# Altium footprint library Connector_PinSocket_1.27mm.PcbLib: 246 footprints (part 5 of 16)
Each footprint in its own frame and in the unit in brackets; x right, y up, seen from the top. Pads: shape width x height; smd on the part's side, far side on the other; paste and mask are expansions set on the pad; w line width, h text height; cw(c..) or ccw(c..) is an arc to the next point about the centre after c.
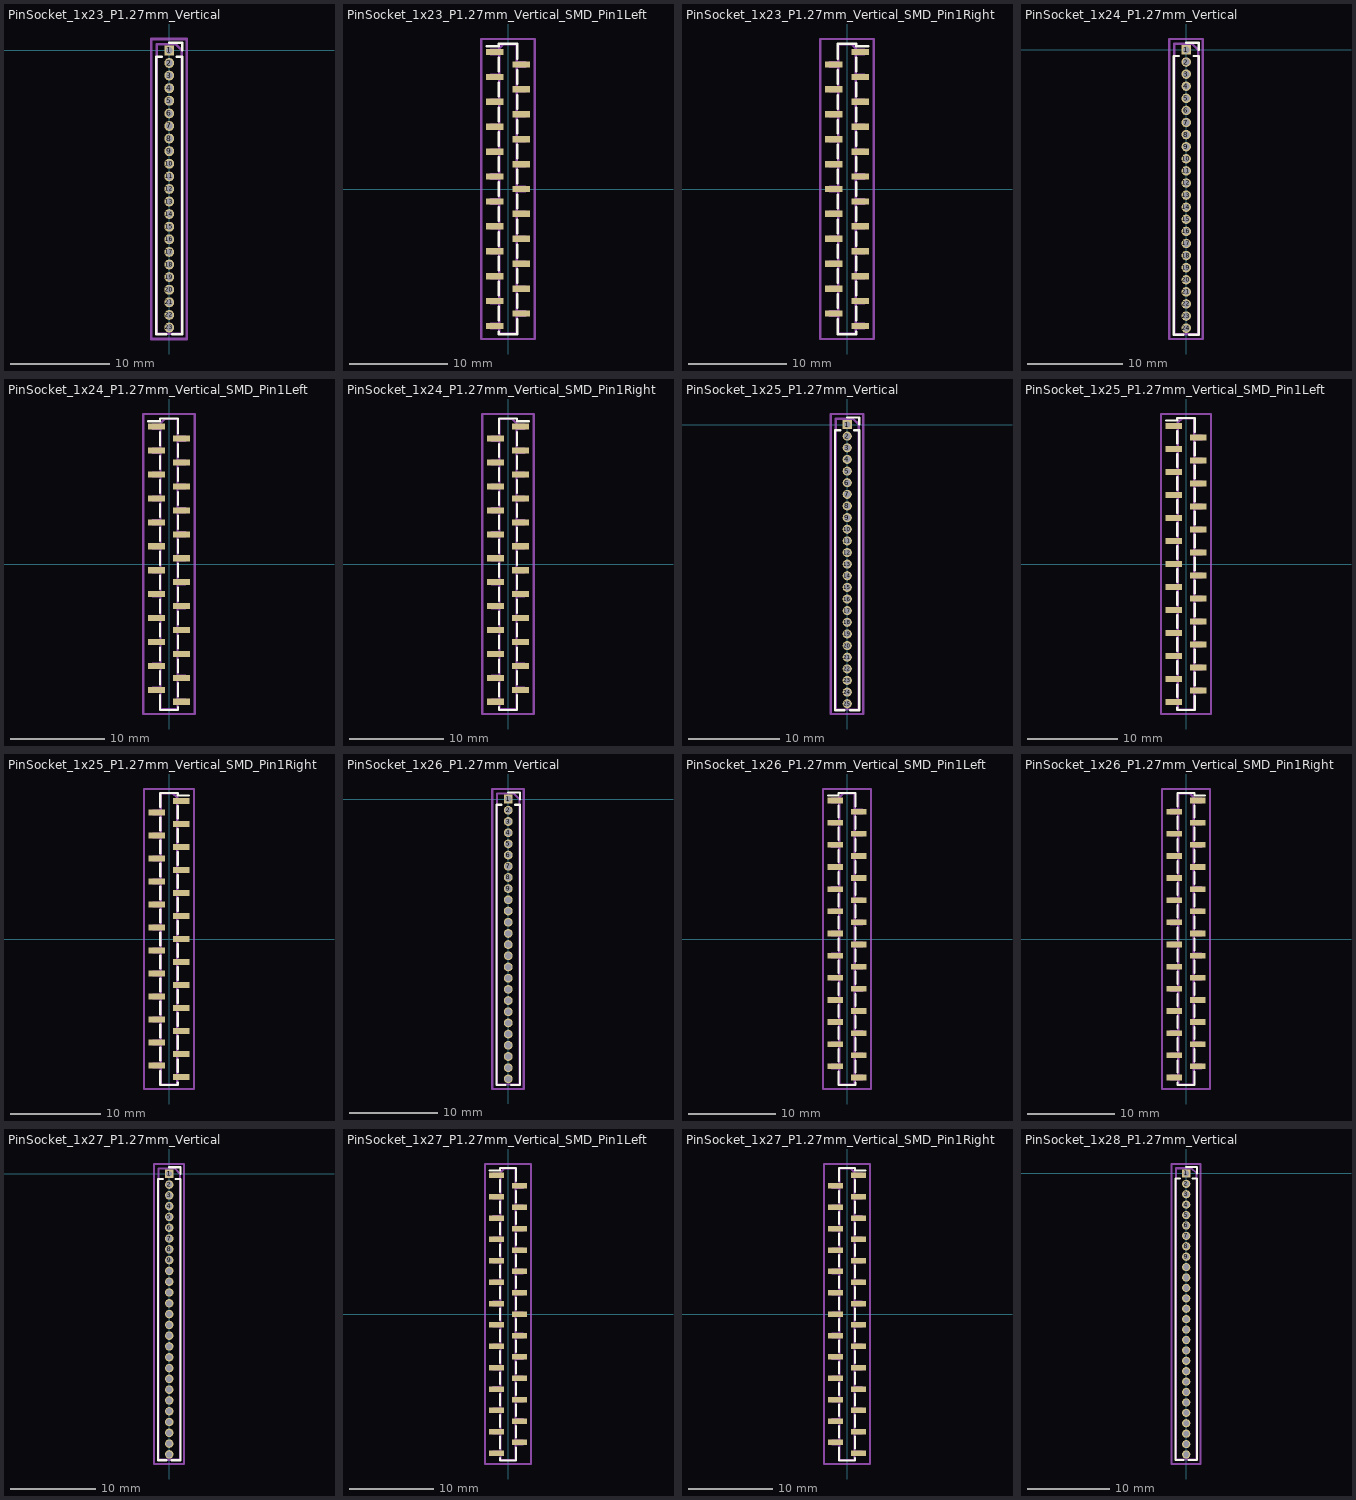
[diagram p4: the footprints below, top view; thin cyan lines are the x and y axes]

## PinSocket_1x23_P1.27mm_Vertical [mm]
pads (23):
  rect 1x1 hole 0.7: 1(0,0)
  round 1 hole 0.7: 2(0,-1.27) 3(0,-2.54) 4(0,-3.81) 5(0,-5.08) 6(0,-6.35) 7(0,-7.62) 8(0,-8.89) 9(0,-10.16) 10(0,-11.43) 11(0,-12.7) 12(0,-13.97) 13(0,-15.24) 14(0,-16.51) 15(0,-17.78) 16(0,-19.05) 17(0,-20.32) 18(0,-21.59) 19(0,-22.86) 20(0,-24.13) 21(0,-25.4) 22(0,-26.67) 23(0,-27.94)
F.SilkS:
  lines w0.254: -0.76,-0.635 -1.33,-0.635 -1.33,-28.635 -0.308,-28.635 ; 0,0.76 1.33,0.76 1.33,0 ; 0.308,-28.635 1.33,-28.635 1.33,-0.635 0.76,-0.635
Top Assembly:
  lines w0.254: -1.27,-28.575 1.27,-28.575 1.27,0 0.635,0.635 -1.27,0.635 -1.27,-28.575
  text "'.Designator'" at 0.84,-18.017 h1
Top Courtyard:
  lines w0.254: -1.8,-29.1 1.75,-29.1 1.75,1.15 -1.8,1.15 -1.8,-29.1
Top Designator:
  text ".Designator" at -7.643,-14.483 h1.52

## PinSocket_1x23_P1.27mm_Vertical_SMD_Pin1Left [mm]
pads (23):
  rect 1.8x0.65 smd: 1(-1.35,13.97) 2(1.35,12.7) 3(-1.35,11.43) 4(1.35,10.16) 5(-1.35,8.89) 6(1.35,7.62) 7(-1.35,6.35) 8(1.35,5.08) 9(-1.35,3.81) 10(1.35,2.54) 11(-1.35,1.27) 12(1.35,0) 13(-1.35,-1.27) 14(1.35,-2.54) 15(-1.35,-3.81) 16(1.35,-5.08) 17(-1.35,-6.35) 18(1.35,-7.62) 19(-1.35,-8.89) 20(1.35,-10.16) 21(-1.35,-11.43) 22(1.35,-12.7) 23(-1.35,-13.97)
F.SilkS:
  lines w0.254: -2.19,14.555 -0.96,14.555 -0.96,14.84 0.96,14.84 0.96,13.285 ; -0.96,-14.555 -0.96,-14.84 0.96,-14.84 0.96,-13.285 ; -0.96,-13.385 -0.96,-12.015 ; -0.96,-10.845 -0.96,-9.475 ; -0.96,-8.305 -0.96,-6.935 ; -0.96,-5.765 -0.96,-4.395 ; -0.96,-3.225 -0.96,-1.855 ; -0.96,-0.685 -0.96,0.685 ; -0.96,1.855 -0.96,3.225 ; -0.96,4.395 -0.96,5.765 ; -0.96,6.935 -0.96,8.305 ; -0.96,9.475 -0.96,10.845 ; -0.96,12.015 -0.96,13.385 ; 0.96,-12.115 0.96,-10.745 ; 0.96,-9.575 0.96,-8.205 ; 0.96,-7.035 0.96,-5.665 ; 0.96,-4.495 0.96,-3.125 ; 0.96,-1.955 0.96,-0.585 ; 0.96,0.585 0.96,1.955 ; 0.96,3.125 0.96,4.495 ; 0.96,5.665 0.96,7.035 ; 0.96,8.205 0.96,9.575 ; 0.96,10.745 0.96,12.115
Top Assembly:
  lines w0.254: -0.9,-14.18 -1.75,-14.18 -1.75,-13.76 -0.9,-13.76 ; -0.9,-11.64 -1.75,-11.64 -1.75,-11.22 -0.9,-11.22 ; -0.9,-9.1 -1.75,-9.1 -1.75,-8.68 -0.9,-8.68 ; -0.9,-6.56 -1.75,-6.56 -1.75,-6.14 -0.9,-6.14 ; -0.9,-4.02 -1.75,-4.02 -1.75,-3.6 -0.9,-3.6 ; -0.9,-1.48 -1.75,-1.48 -1.75,-1.06 -0.9,-1.06 ; -0.9,1.06 -1.75,1.06 -1.75,1.48 -0.9,1.48 ; -0.9,3.6 -1.75,3.6 -1.75,4.02 -0.9,4.02 ; -0.9,6.14 -1.75,6.14 -1.75,6.56 -0.9,6.56 ; -0.9,8.68 -1.75,8.68 -1.75,9.1 -0.9,9.1 ; -0.9,11.22 -1.75,11.22 -1.75,11.64 -0.9,11.64 ; -0.9,13.76 -1.75,13.76 -1.75,14.18 -0.9,14.18 ; 0.9,-12.91 1.75,-12.91 1.75,-12.49 0.9,-12.49 ; 0.9,-10.37 1.75,-10.37 1.75,-9.95 0.9,-9.95 ; 0.9,-7.83 1.75,-7.83 1.75,-7.41 0.9,-7.41 ; 0.9,-5.29 1.75,-5.29 1.75,-4.87 0.9,-4.87 ; 0.9,-2.75 1.75,-2.75 1.75,-2.33 0.9,-2.33 ; 0.9,-0.21 1.75,-0.21 1.75,0.21 0.9,0.21 ; 0.9,2.33 1.75,2.33 1.75,2.75 0.9,2.75 ; 0.9,4.87 1.75,4.87 1.75,5.29 0.9,5.29 ; 0.9,7.41 1.75,7.41 1.75,7.83 0.9,7.83 ; 0.9,9.95 1.75,9.95 1.75,10.37 0.9,10.37 ; 0.9,12.49 1.75,12.49 1.75,12.91 0.9,12.91 ; -0.9,-14.78 0.9,-14.78 0.9,14.78 -0.45,14.78 -0.9,14.33 -0.9,-14.78
  text "'.Designator'" at 0.84,-4.047 h1
Top Courtyard:
  lines w0.254: -2.75,-15.3 2.75,-15.3 2.75,15.3 -2.75,15.3 -2.75,-15.3
Top Designator:
  text ".Designator" at -7.618,-0.508 h1.52

## PinSocket_1x23_P1.27mm_Vertical_SMD_Pin1Right [mm]
pads (23):
  rect 1.8x0.65 smd: 1(1.35,13.97) 2(-1.35,12.7) 3(1.35,11.43) 4(-1.35,10.16) 5(1.35,8.89) 6(-1.35,7.62) 7(1.35,6.35) 8(-1.35,5.08) 9(1.35,3.81) 10(-1.35,2.54) 11(1.35,1.27) 12(-1.35,0) 13(1.35,-1.27) 14(-1.35,-2.54) 15(1.35,-3.81) 16(-1.35,-5.08) 17(1.35,-6.35) 18(-1.35,-7.62) 19(1.35,-8.89) 20(-1.35,-10.16) 21(1.35,-11.43) 22(-1.35,-12.7) 23(1.35,-13.97)
F.SilkS:
  lines w0.254: -0.96,-13.285 -0.96,-14.84 0.96,-14.84 0.96,-14.555 ; -0.96,-12.115 -0.96,-10.745 ; -0.96,-9.575 -0.96,-8.205 ; -0.96,-7.035 -0.96,-5.665 ; -0.96,-4.495 -0.96,-3.125 ; -0.96,-1.955 -0.96,-0.585 ; -0.96,0.585 -0.96,1.955 ; -0.96,3.125 -0.96,4.495 ; -0.96,5.665 -0.96,7.035 ; -0.96,8.205 -0.96,9.575 ; -0.96,10.745 -0.96,12.115 ; -0.96,13.285 -0.96,14.84 0.96,14.84 0.96,14.555 2.19,14.555 ; 0.96,-13.385 0.96,-12.015 ; 0.96,-10.845 0.96,-9.475 ; 0.96,-8.305 0.96,-6.935 ; 0.96,-5.765 0.96,-4.395 ; 0.96,-3.225 0.96,-1.855 ; 0.96,-0.685 0.96,0.685 ; 0.96,1.855 0.96,3.225 ; 0.96,4.395 0.96,5.765 ; 0.96,6.935 0.96,8.305 ; 0.96,9.475 0.96,10.845 ; 0.96,12.015 0.96,13.385
Top Assembly:
  lines w0.254: -0.9,-12.91 -1.75,-12.91 -1.75,-12.49 -0.9,-12.49 ; -0.9,-10.37 -1.75,-10.37 -1.75,-9.95 -0.9,-9.95 ; -0.9,-7.83 -1.75,-7.83 -1.75,-7.41 -0.9,-7.41 ; -0.9,-5.29 -1.75,-5.29 -1.75,-4.87 -0.9,-4.87 ; -0.9,-2.75 -1.75,-2.75 -1.75,-2.33 -0.9,-2.33 ; -0.9,-0.21 -1.75,-0.21 -1.75,0.21 -0.9,0.21 ; -0.9,2.33 -1.75,2.33 -1.75,2.75 -0.9,2.75 ; -0.9,4.87 -1.75,4.87 -1.75,5.29 -0.9,5.29 ; -0.9,7.41 -1.75,7.41 -1.75,7.83 -0.9,7.83 ; -0.9,9.95 -1.75,9.95 -1.75,10.37 -0.9,10.37 ; -0.9,12.49 -1.75,12.49 -1.75,12.91 -0.9,12.91 ; 0.9,-14.18 1.75,-14.18 1.75,-13.76 0.9,-13.76 ; 0.9,-11.64 1.75,-11.64 1.75,-11.22 0.9,-11.22 ; 0.9,-9.1 1.75,-9.1 1.75,-8.68 0.9,-8.68 ; 0.9,-6.56 1.75,-6.56 1.75,-6.14 0.9,-6.14 ; 0.9,-4.02 1.75,-4.02 1.75,-3.6 0.9,-3.6 ; 0.9,-1.48 1.75,-1.48 1.75,-1.06 0.9,-1.06 ; 0.9,1.06 1.75,1.06 1.75,1.48 0.9,1.48 ; 0.9,3.6 1.75,3.6 1.75,4.02 0.9,4.02 ; 0.9,6.14 1.75,6.14 1.75,6.56 0.9,6.56 ; 0.9,8.68 1.75,8.68 1.75,9.1 0.9,9.1 ; 0.9,11.22 1.75,11.22 1.75,11.64 0.9,11.64 ; 0.9,13.76 1.75,13.76 1.75,14.18 0.9,14.18 ; -0.9,-14.78 0.9,-14.78 0.9,14.33 0.45,14.78 -0.9,14.78 -0.9,-14.78
  text "'.Designator'" at 0.84,-4.047 h1
Top Courtyard:
  lines w0.254: -2.75,-15.3 2.75,-15.3 2.75,15.3 -2.75,15.3 -2.75,-15.3
Top Designator:
  text ".Designator" at -7.618,-0.508 h1.52

## PinSocket_1x24_P1.27mm_Vertical [mm]
pads (24):
  rect 1x1 hole 0.7: 1(0,0)
  round 1 hole 0.7: 2(0,-1.27) 3(0,-2.54) 4(0,-3.81) 5(0,-5.08) 6(0,-6.35) 7(0,-7.62) 8(0,-8.89) 9(0,-10.16) 10(0,-11.43) 11(0,-12.7) 12(0,-13.97) 13(0,-15.24) 14(0,-16.51) 15(0,-17.78) 16(0,-19.05) 17(0,-20.32) 18(0,-21.59) 19(0,-22.86) 20(0,-24.13) 21(0,-25.4) 22(0,-26.67) 23(0,-27.94) 24(0,-29.21)
F.SilkS:
  lines w0.254: -0.76,-0.635 -1.33,-0.635 -1.33,-29.905 -0.308,-29.905 ; 0,0.76 1.33,0.76 1.33,0 ; 0.308,-29.905 1.33,-29.905 1.33,-0.635 0.76,-0.635
Top Assembly:
  lines w0.254: -1.27,-29.845 1.27,-29.845 1.27,0 0.635,0.635 -1.27,0.635 -1.27,-29.845
  text "'.Designator'" at 0.84,-18.652 h1
Top Courtyard:
  lines w0.254: -1.8,-30.35 1.75,-30.35 1.75,1.15 -1.8,1.15 -1.8,-30.35
Top Designator:
  text ".Designator" at -7.643,-15.108 h1.52

## PinSocket_1x24_P1.27mm_Vertical_SMD_Pin1Left [mm]
pads (24):
  rect 1.8x0.65 smd: 1(-1.35,14.605) 2(1.35,13.335) 3(-1.35,12.065) 4(1.35,10.795) 5(-1.35,9.525) 6(1.35,8.255) 7(-1.35,6.985) 8(1.35,5.715) 9(-1.35,4.445) 10(1.35,3.175) 11(-1.35,1.905) 12(1.35,0.635) 13(-1.35,-0.635) 14(1.35,-1.905) 15(-1.35,-3.175) 16(1.35,-4.445) 17(-1.35,-5.715) 18(1.35,-6.985) 19(-1.35,-8.255) 20(1.35,-9.525) 21(-1.35,-10.795) 22(1.35,-12.065) 23(-1.35,-13.335) 24(1.35,-14.605)
F.SilkS:
  lines w0.254: -2.19,15.19 -0.96,15.19 -0.96,15.475 0.96,15.475 0.96,13.92 ; -0.96,-13.92 -0.96,-15.475 0.96,-15.475 0.96,-15.19 ; -0.96,-12.75 -0.96,-11.38 ; -0.96,-10.21 -0.96,-8.84 ; -0.96,-7.67 -0.96,-6.3 ; -0.96,-5.13 -0.96,-3.76 ; -0.96,-2.59 -0.96,-1.22 ; -0.96,-0.05 -0.96,1.32 ; -0.96,2.49 -0.96,3.86 ; -0.96,5.03 -0.96,6.4 ; -0.96,7.57 -0.96,8.94 ; -0.96,10.11 -0.96,11.48 ; -0.96,12.65 -0.96,14.02 ; 0.96,-14.02 0.96,-12.65 ; 0.96,-11.48 0.96,-10.11 ; 0.96,-8.94 0.96,-7.57 ; 0.96,-6.4 0.96,-5.03 ; 0.96,-3.86 0.96,-2.49 ; 0.96,-1.32 0.96,0.05 ; 0.96,1.22 0.96,2.59 ; 0.96,3.76 0.96,5.13 ; 0.96,6.3 0.96,7.67 ; 0.96,8.84 0.96,10.21 ; 0.96,11.38 0.96,12.75
Top Assembly:
  lines w0.254: -0.9,-13.545 -1.75,-13.545 -1.75,-13.125 -0.9,-13.125 ; -0.9,-11.005 -1.75,-11.005 -1.75,-10.585 -0.9,-10.585 ; -0.9,-8.465 -1.75,-8.465 -1.75,-8.045 -0.9,-8.045 ; -0.9,-5.925 -1.75,-5.925 -1.75,-5.505 -0.9,-5.505 ; -0.9,-3.385 -1.75,-3.385 -1.75,-2.965 -0.9,-2.965 ; -0.9,-0.845 -1.75,-0.845 -1.75,-0.425 -0.9,-0.425 ; -0.9,1.695 -1.75,1.695 -1.75,2.115 -0.9,2.115 ; -0.9,4.235 -1.75,4.235 -1.75,4.655 -0.9,4.655 ; -0.9,6.775 -1.75,6.775 -1.75,7.195 -0.9,7.195 ; -0.9,9.315 -1.75,9.315 -1.75,9.735 -0.9,9.735 ; -0.9,11.855 -1.75,11.855 -1.75,12.275 -0.9,12.275 ; -0.9,14.395 -1.75,14.395 -1.75,14.815 -0.9,14.815 ; 0.9,-14.815 1.75,-14.815 1.75,-14.395 0.9,-14.395 ; 0.9,-12.275 1.75,-12.275 1.75,-11.855 0.9,-11.855 ; 0.9,-9.735 1.75,-9.735 1.75,-9.315 0.9,-9.315 ; 0.9,-7.195 1.75,-7.195 1.75,-6.775 0.9,-6.775 ; 0.9,-4.655 1.75,-4.655 1.75,-4.235 0.9,-4.235 ; 0.9,-2.115 1.75,-2.115 1.75,-1.695 0.9,-1.695 ; 0.9,0.425 1.75,0.425 1.75,0.845 0.9,0.845 ; 0.9,2.965 1.75,2.965 1.75,3.385 0.9,3.385 ; 0.9,5.505 1.75,5.505 1.75,5.925 0.9,5.925 ; 0.9,8.045 1.75,8.045 1.75,8.465 0.9,8.465 ; 0.9,10.585 1.75,10.585 1.75,11.005 0.9,11.005 ; 0.9,13.125 1.75,13.125 1.75,13.545 0.9,13.545 ; -0.9,-15.415 0.9,-15.415 0.9,15.415 -0.45,15.415 -0.9,14.965 -0.9,-15.415
  text "'.Designator'" at 0.84,-4.047 h1
Top Courtyard:
  lines w0.254: -2.75,-15.9 2.75,-15.9 2.75,15.95 -2.75,15.95 -2.75,-15.9
Top Designator:
  text ".Designator" at -7.618,-0.483 h1.52

## PinSocket_1x24_P1.27mm_Vertical_SMD_Pin1Right [mm]
pads (24):
  rect 1.8x0.65 smd: 1(1.35,14.605) 2(-1.35,13.335) 3(1.35,12.065) 4(-1.35,10.795) 5(1.35,9.525) 6(-1.35,8.255) 7(1.35,6.985) 8(-1.35,5.715) 9(1.35,4.445) 10(-1.35,3.175) 11(1.35,1.905) 12(-1.35,0.635) 13(1.35,-0.635) 14(-1.35,-1.905) 15(1.35,-3.175) 16(-1.35,-4.445) 17(1.35,-5.715) 18(-1.35,-6.985) 19(1.35,-8.255) 20(-1.35,-9.525) 21(1.35,-10.795) 22(-1.35,-12.065) 23(1.35,-13.335) 24(-1.35,-14.605)
F.SilkS:
  lines w0.254: -0.96,-15.19 -0.96,-15.475 0.96,-15.475 0.96,-13.92 ; -0.96,-14.02 -0.96,-12.65 ; -0.96,-11.48 -0.96,-10.11 ; -0.96,-8.94 -0.96,-7.57 ; -0.96,-6.4 -0.96,-5.03 ; -0.96,-3.86 -0.96,-2.49 ; -0.96,-1.32 -0.96,0.05 ; -0.96,1.22 -0.96,2.59 ; -0.96,3.76 -0.96,5.13 ; -0.96,6.3 -0.96,7.67 ; -0.96,8.84 -0.96,10.21 ; -0.96,11.38 -0.96,12.75 ; -0.96,13.92 -0.96,15.475 0.96,15.475 0.96,15.19 2.19,15.19 ; 0.96,-12.75 0.96,-11.38 ; 0.96,-10.21 0.96,-8.84 ; 0.96,-7.67 0.96,-6.3 ; 0.96,-5.13 0.96,-3.76 ; 0.96,-2.59 0.96,-1.22 ; 0.96,-0.05 0.96,1.32 ; 0.96,2.49 0.96,3.86 ; 0.96,5.03 0.96,6.4 ; 0.96,7.57 0.96,8.94 ; 0.96,10.11 0.96,11.48 ; 0.96,12.65 0.96,14.02
Top Assembly:
  lines w0.254: -0.9,-14.815 -1.75,-14.815 -1.75,-14.395 -0.9,-14.395 ; -0.9,-12.275 -1.75,-12.275 -1.75,-11.855 -0.9,-11.855 ; -0.9,-9.735 -1.75,-9.735 -1.75,-9.315 -0.9,-9.315 ; -0.9,-7.195 -1.75,-7.195 -1.75,-6.775 -0.9,-6.775 ; -0.9,-4.655 -1.75,-4.655 -1.75,-4.235 -0.9,-4.235 ; -0.9,-2.115 -1.75,-2.115 -1.75,-1.695 -0.9,-1.695 ; -0.9,0.425 -1.75,0.425 -1.75,0.845 -0.9,0.845 ; -0.9,2.965 -1.75,2.965 -1.75,3.385 -0.9,3.385 ; -0.9,5.505 -1.75,5.505 -1.75,5.925 -0.9,5.925 ; -0.9,8.045 -1.75,8.045 -1.75,8.465 -0.9,8.465 ; -0.9,10.585 -1.75,10.585 -1.75,11.005 -0.9,11.005 ; -0.9,13.125 -1.75,13.125 -1.75,13.545 -0.9,13.545 ; 0.9,-13.545 1.75,-13.545 1.75,-13.125 0.9,-13.125 ; 0.9,-11.005 1.75,-11.005 1.75,-10.585 0.9,-10.585 ; 0.9,-8.465 1.75,-8.465 1.75,-8.045 0.9,-8.045 ; 0.9,-5.925 1.75,-5.925 1.75,-5.505 0.9,-5.505 ; 0.9,-3.385 1.75,-3.385 1.75,-2.965 0.9,-2.965 ; 0.9,-0.845 1.75,-0.845 1.75,-0.425 0.9,-0.425 ; 0.9,1.695 1.75,1.695 1.75,2.115 0.9,2.115 ; 0.9,4.235 1.75,4.235 1.75,4.655 0.9,4.655 ; 0.9,6.775 1.75,6.775 1.75,7.195 0.9,7.195 ; 0.9,9.315 1.75,9.315 1.75,9.735 0.9,9.735 ; 0.9,11.855 1.75,11.855 1.75,12.275 0.9,12.275 ; 0.9,14.395 1.75,14.395 1.75,14.815 0.9,14.815 ; -0.9,-15.415 0.9,-15.415 0.9,14.965 0.45,15.415 -0.9,15.415 -0.9,-15.415
  text "'.Designator'" at 0.84,-4.047 h1
Top Courtyard:
  lines w0.254: -2.75,-15.9 2.75,-15.9 2.75,15.95 -2.75,15.95 -2.75,-15.9
Top Designator:
  text ".Designator" at -7.618,-0.483 h1.52

## PinSocket_1x25_P1.27mm_Vertical [mm]
pads (25):
  rect 1x1 hole 0.7: 1(0,0)
  round 1 hole 0.7: 2(0,-1.27) 3(0,-2.54) 4(0,-3.81) 5(0,-5.08) 6(0,-6.35) 7(0,-7.62) 8(0,-8.89) 9(0,-10.16) 10(0,-11.43) 11(0,-12.7) 12(0,-13.97) 13(0,-15.24) 14(0,-16.51) 15(0,-17.78) 16(0,-19.05) 17(0,-20.32) 18(0,-21.59) 19(0,-22.86) 20(0,-24.13) 21(0,-25.4) 22(0,-26.67) 23(0,-27.94) 24(0,-29.21) 25(0,-30.48)
F.SilkS:
  lines w0.254: -0.76,-0.635 -1.33,-0.635 -1.33,-31.175 -0.308,-31.175 ; 0,0.76 1.33,0.76 1.33,0 ; 0.308,-31.175 1.33,-31.175 1.33,-0.635 0.76,-0.635
Top Assembly:
  lines w0.254: -1.27,-31.115 1.27,-31.115 1.27,0 0.635,0.635 -1.27,0.635 -1.27,-31.115
  text "'.Designator'" at 0.84,-19.287 h1
Top Courtyard:
  lines w0.254: -1.8,-31.6 1.75,-31.6 1.75,1.15 -1.8,1.15 -1.8,-31.6
Top Designator:
  text ".Designator" at -7.643,-15.733 h1.52

## PinSocket_1x25_P1.27mm_Vertical_SMD_Pin1Left [mm]
pads (25):
  rect 1.8x0.65 smd: 1(-1.35,15.24) 2(1.35,13.97) 3(-1.35,12.7) 4(1.35,11.43) 5(-1.35,10.16) 6(1.35,8.89) 7(-1.35,7.62) 8(1.35,6.35) 9(-1.35,5.08) 10(1.35,3.81) 11(-1.35,2.54) 12(1.35,1.27) 13(-1.35,0) 14(1.35,-1.27) 15(-1.35,-2.54) 16(1.35,-3.81) 17(-1.35,-5.08) 18(1.35,-6.35) 19(-1.35,-7.62) 20(1.35,-8.89) 21(-1.35,-10.16) 22(1.35,-11.43) 23(-1.35,-12.7) 24(1.35,-13.97) 25(-1.35,-15.24)
F.SilkS:
  lines w0.254: -2.19,15.825 -0.96,15.825 -0.96,16.11 0.96,16.11 0.96,14.555 ; -0.96,-15.825 -0.96,-16.11 0.96,-16.11 0.96,-14.555 ; -0.96,-14.655 -0.96,-13.285 ; -0.96,-12.115 -0.96,-10.745 ; -0.96,-9.575 -0.96,-8.205 ; -0.96,-7.035 -0.96,-5.665 ; -0.96,-4.495 -0.96,-3.125 ; -0.96,-1.955 -0.96,-0.585 ; -0.96,0.585 -0.96,1.955 ; -0.96,3.125 -0.96,4.495 ; -0.96,5.665 -0.96,7.035 ; -0.96,8.205 -0.96,9.575 ; -0.96,10.745 -0.96,12.115 ; -0.96,13.285 -0.96,14.655 ; 0.96,-13.385 0.96,-12.015 ; 0.96,-10.845 0.96,-9.475 ; 0.96,-8.305 0.96,-6.935 ; 0.96,-5.765 0.96,-4.395 ; 0.96,-3.225 0.96,-1.855 ; 0.96,-0.685 0.96,0.685 ; 0.96,1.855 0.96,3.225 ; 0.96,4.395 0.96,5.765 ; 0.96,6.935 0.96,8.305 ; 0.96,9.475 0.96,10.845 ; 0.96,12.015 0.96,13.385
Top Assembly:
  lines w0.254: -0.9,-15.45 -1.75,-15.45 -1.75,-15.03 -0.9,-15.03 ; -0.9,-12.91 -1.75,-12.91 -1.75,-12.49 -0.9,-12.49 ; -0.9,-10.37 -1.75,-10.37 -1.75,-9.95 -0.9,-9.95 ; -0.9,-7.83 -1.75,-7.83 -1.75,-7.41 -0.9,-7.41 ; -0.9,-5.29 -1.75,-5.29 -1.75,-4.87 -0.9,-4.87 ; -0.9,-2.75 -1.75,-2.75 -1.75,-2.33 -0.9,-2.33 ; -0.9,-0.21 -1.75,-0.21 -1.75,0.21 -0.9,0.21 ; -0.9,2.33 -1.75,2.33 -1.75,2.75 -0.9,2.75 ; -0.9,4.87 -1.75,4.87 -1.75,5.29 -0.9,5.29 ; -0.9,7.41 -1.75,7.41 -1.75,7.83 -0.9,7.83 ; -0.9,9.95 -1.75,9.95 -1.75,10.37 -0.9,10.37 ; -0.9,12.49 -1.75,12.49 -1.75,12.91 -0.9,12.91 ; -0.9,15.03 -1.75,15.03 -1.75,15.45 -0.9,15.45 ; 0.9,-14.18 1.75,-14.18 1.75,-13.76 0.9,-13.76 ; 0.9,-11.64 1.75,-11.64 1.75,-11.22 0.9,-11.22 ; 0.9,-9.1 1.75,-9.1 1.75,-8.68 0.9,-8.68 ; 0.9,-6.56 1.75,-6.56 1.75,-6.14 0.9,-6.14 ; 0.9,-4.02 1.75,-4.02 1.75,-3.6 0.9,-3.6 ; 0.9,-1.48 1.75,-1.48 1.75,-1.06 0.9,-1.06 ; 0.9,1.06 1.75,1.06 1.75,1.48 0.9,1.48 ; 0.9,3.6 1.75,3.6 1.75,4.02 0.9,4.02 ; 0.9,6.14 1.75,6.14 1.75,6.56 0.9,6.56 ; 0.9,8.68 1.75,8.68 1.75,9.1 0.9,9.1 ; 0.9,11.22 1.75,11.22 1.75,11.64 0.9,11.64 ; 0.9,13.76 1.75,13.76 1.75,14.18 0.9,14.18 ; -0.9,-16.05 0.9,-16.05 0.9,16.05 -0.45,16.05 -0.9,15.6 -0.9,-16.05
  text "'.Designator'" at 0.84,-4.047 h1
Top Courtyard:
  lines w0.254: -2.75,-16.55 2.75,-16.55 2.75,16.55 -2.75,16.55 -2.75,-16.55
Top Designator:
  text ".Designator" at -7.618,-0.508 h1.52

## PinSocket_1x25_P1.27mm_Vertical_SMD_Pin1Right [mm]
pads (25):
  rect 1.8x0.65 smd: 1(1.35,15.24) 2(-1.35,13.97) 3(1.35,12.7) 4(-1.35,11.43) 5(1.35,10.16) 6(-1.35,8.89) 7(1.35,7.62) 8(-1.35,6.35) 9(1.35,5.08) 10(-1.35,3.81) 11(1.35,2.54) 12(-1.35,1.27) 13(1.35,0) 14(-1.35,-1.27) 15(1.35,-2.54) 16(-1.35,-3.81) 17(1.35,-5.08) 18(-1.35,-6.35) 19(1.35,-7.62) 20(-1.35,-8.89) 21(1.35,-10.16) 22(-1.35,-11.43) 23(1.35,-12.7) 24(-1.35,-13.97) 25(1.35,-15.24)
F.SilkS:
  lines w0.254: -0.96,-14.555 -0.96,-16.11 0.96,-16.11 0.96,-15.825 ; -0.96,-13.385 -0.96,-12.015 ; -0.96,-10.845 -0.96,-9.475 ; -0.96,-8.305 -0.96,-6.935 ; -0.96,-5.765 -0.96,-4.395 ; -0.96,-3.225 -0.96,-1.855 ; -0.96,-0.685 -0.96,0.685 ; -0.96,1.855 -0.96,3.225 ; -0.96,4.395 -0.96,5.765 ; -0.96,6.935 -0.96,8.305 ; -0.96,9.475 -0.96,10.845 ; -0.96,12.015 -0.96,13.385 ; -0.96,14.555 -0.96,16.11 0.96,16.11 0.96,15.825 2.19,15.825 ; 0.96,-14.655 0.96,-13.285 ; 0.96,-12.115 0.96,-10.745 ; 0.96,-9.575 0.96,-8.205 ; 0.96,-7.035 0.96,-5.665 ; 0.96,-4.495 0.96,-3.125 ; 0.96,-1.955 0.96,-0.585 ; 0.96,0.585 0.96,1.955 ; 0.96,3.125 0.96,4.495 ; 0.96,5.665 0.96,7.035 ; 0.96,8.205 0.96,9.575 ; 0.96,10.745 0.96,12.115 ; 0.96,13.285 0.96,14.655
Top Assembly:
  lines w0.254: -0.9,-14.18 -1.75,-14.18 -1.75,-13.76 -0.9,-13.76 ; -0.9,-11.64 -1.75,-11.64 -1.75,-11.22 -0.9,-11.22 ; -0.9,-9.1 -1.75,-9.1 -1.75,-8.68 -0.9,-8.68 ; -0.9,-6.56 -1.75,-6.56 -1.75,-6.14 -0.9,-6.14 ; -0.9,-4.02 -1.75,-4.02 -1.75,-3.6 -0.9,-3.6 ; -0.9,-1.48 -1.75,-1.48 -1.75,-1.06 -0.9,-1.06 ; -0.9,1.06 -1.75,1.06 -1.75,1.48 -0.9,1.48 ; -0.9,3.6 -1.75,3.6 -1.75,4.02 -0.9,4.02 ; -0.9,6.14 -1.75,6.14 -1.75,6.56 -0.9,6.56 ; -0.9,8.68 -1.75,8.68 -1.75,9.1 -0.9,9.1 ; -0.9,11.22 -1.75,11.22 -1.75,11.64 -0.9,11.64 ; -0.9,13.76 -1.75,13.76 -1.75,14.18 -0.9,14.18 ; 0.9,-15.45 1.75,-15.45 1.75,-15.03 0.9,-15.03 ; 0.9,-12.91 1.75,-12.91 1.75,-12.49 0.9,-12.49 ; 0.9,-10.37 1.75,-10.37 1.75,-9.95 0.9,-9.95 ; 0.9,-7.83 1.75,-7.83 1.75,-7.41 0.9,-7.41 ; 0.9,-5.29 1.75,-5.29 1.75,-4.87 0.9,-4.87 ; 0.9,-2.75 1.75,-2.75 1.75,-2.33 0.9,-2.33 ; 0.9,-0.21 1.75,-0.21 1.75,0.21 0.9,0.21 ; 0.9,2.33 1.75,2.33 1.75,2.75 0.9,2.75 ; 0.9,4.87 1.75,4.87 1.75,5.29 0.9,5.29 ; 0.9,7.41 1.75,7.41 1.75,7.83 0.9,7.83 ; 0.9,9.95 1.75,9.95 1.75,10.37 0.9,10.37 ; 0.9,12.49 1.75,12.49 1.75,12.91 0.9,12.91 ; 0.9,15.03 1.75,15.03 1.75,15.45 0.9,15.45 ; -0.9,-16.05 0.9,-16.05 0.9,15.6 0.45,16.05 -0.9,16.05 -0.9,-16.05
  text "'.Designator'" at 0.84,-4.047 h1
Top Courtyard:
  lines w0.254: -2.75,-16.55 2.75,-16.55 2.75,16.55 -2.75,16.55 -2.75,-16.55
Top Designator:
  text ".Designator" at -7.618,-0.508 h1.52

## PinSocket_1x26_P1.27mm_Vertical [mm]
pads (26):
  rect 1x1 hole 0.7: 1(0,0)
  round 1 hole 0.7: 2(0,-1.27) 3(0,-2.54) 4(0,-3.81) 5(0,-5.08) 6(0,-6.35) 7(0,-7.62) 8(0,-8.89) 9(0,-10.16) 10(0,-11.43) 11(0,-12.7) 12(0,-13.97) 13(0,-15.24) 14(0,-16.51) 15(0,-17.78) 16(0,-19.05) 17(0,-20.32) 18(0,-21.59) 19(0,-22.86) 20(0,-24.13) 21(0,-25.4) 22(0,-26.67) 23(0,-27.94) 24(0,-29.21) 25(0,-30.48) 26(0,-31.75)
F.SilkS:
  lines w0.254: -0.76,-0.635 -1.33,-0.635 -1.33,-32.445 -0.308,-32.445 ; 0,0.76 1.33,0.76 1.33,0 ; 0.308,-32.445 1.33,-32.445 1.33,-0.635 0.76,-0.635
Top Assembly:
  lines w0.254: -1.27,-32.385 1.27,-32.385 1.27,0 0.635,0.635 -1.27,0.635 -1.27,-32.385
  text "'.Designator'" at 0.84,-19.922 h1
Top Courtyard:
  lines w0.254: -1.8,-32.9 1.75,-32.9 1.75,1.15 -1.8,1.15 -1.8,-32.9
Top Designator:
  text ".Designator" at -7.643,-16.383 h1.52

## PinSocket_1x26_P1.27mm_Vertical_SMD_Pin1Left [mm]
pads (26):
  rect 1.8x0.65 smd: 1(-1.35,15.875) 2(1.35,14.605) 3(-1.35,13.335) 4(1.35,12.065) 5(-1.35,10.795) 6(1.35,9.525) 7(-1.35,8.255) 8(1.35,6.985) 9(-1.35,5.715) 10(1.35,4.445) 11(-1.35,3.175) 12(1.35,1.905) 13(-1.35,0.635) 14(1.35,-0.635) 15(-1.35,-1.905) 16(1.35,-3.175) 17(-1.35,-4.445) 18(1.35,-5.715) 19(-1.35,-6.985) 20(1.35,-8.255) 21(-1.35,-9.525) 22(1.35,-10.795) 23(-1.35,-12.065) 24(1.35,-13.335) 25(-1.35,-14.605) 26(1.35,-15.875)
F.SilkS:
  lines w0.254: -2.19,16.46 -0.96,16.46 -0.96,16.745 0.96,16.745 0.96,15.19 ; -0.96,-15.19 -0.96,-16.745 0.96,-16.745 0.96,-16.46 ; -0.96,-14.02 -0.96,-12.65 ; -0.96,-11.48 -0.96,-10.11 ; -0.96,-8.94 -0.96,-7.57 ; -0.96,-6.4 -0.96,-5.03 ; -0.96,-3.86 -0.96,-2.49 ; -0.96,-1.32 -0.96,0.05 ; -0.96,1.22 -0.96,2.59 ; -0.96,3.76 -0.96,5.13 ; -0.96,6.3 -0.96,7.67 ; -0.96,8.84 -0.96,10.21 ; -0.96,11.38 -0.96,12.75 ; -0.96,13.92 -0.96,15.29 ; 0.96,-15.29 0.96,-13.92 ; 0.96,-12.75 0.96,-11.38 ; 0.96,-10.21 0.96,-8.84 ; 0.96,-7.67 0.96,-6.3 ; 0.96,-5.13 0.96,-3.76 ; 0.96,-2.59 0.96,-1.22 ; 0.96,-0.05 0.96,1.32 ; 0.96,2.49 0.96,3.86 ; 0.96,5.03 0.96,6.4 ; 0.96,7.57 0.96,8.94 ; 0.96,10.11 0.96,11.48 ; 0.96,12.65 0.96,14.02
Top Assembly:
  lines w0.254: -0.9,-14.815 -1.75,-14.815 -1.75,-14.395 -0.9,-14.395 ; -0.9,-12.275 -1.75,-12.275 -1.75,-11.855 -0.9,-11.855 ; -0.9,-9.735 -1.75,-9.735 -1.75,-9.315 -0.9,-9.315 ; -0.9,-7.195 -1.75,-7.195 -1.75,-6.775 -0.9,-6.775 ; -0.9,-4.655 -1.75,-4.655 -1.75,-4.235 -0.9,-4.235 ; -0.9,-2.115 -1.75,-2.115 -1.75,-1.695 -0.9,-1.695 ; -0.9,0.425 -1.75,0.425 -1.75,0.845 -0.9,0.845 ; -0.9,2.965 -1.75,2.965 -1.75,3.385 -0.9,3.385 ; -0.9,5.505 -1.75,5.505 -1.75,5.925 -0.9,5.925 ; -0.9,8.045 -1.75,8.045 -1.75,8.465 -0.9,8.465 ; -0.9,10.585 -1.75,10.585 -1.75,11.005 -0.9,11.005 ; -0.9,13.125 -1.75,13.125 -1.75,13.545 -0.9,13.545 ; -0.9,15.665 -1.75,15.665 -1.75,16.085 -0.9,16.085 ; 0.9,-16.085 1.75,-16.085 1.75,-15.665 0.9,-15.665 ; 0.9,-13.545 1.75,-13.545 1.75,-13.125 0.9,-13.125 ; 0.9,-11.005 1.75,-11.005 1.75,-10.585 0.9,-10.585 ; 0.9,-8.465 1.75,-8.465 1.75,-8.045 0.9,-8.045 ; 0.9,-5.925 1.75,-5.925 1.75,-5.505 0.9,-5.505 ; 0.9,-3.385 1.75,-3.385 1.75,-2.965 0.9,-2.965 ; 0.9,-0.845 1.75,-0.845 1.75,-0.425 0.9,-0.425 ; 0.9,1.695 1.75,1.695 1.75,2.115 0.9,2.115 ; 0.9,4.235 1.75,4.235 1.75,4.655 0.9,4.655 ; 0.9,6.775 1.75,6.775 1.75,7.195 0.9,7.195 ; 0.9,9.315 1.75,9.315 1.75,9.735 0.9,9.735 ; 0.9,11.855 1.75,11.855 1.75,12.275 0.9,12.275 ; 0.9,14.395 1.75,14.395 1.75,14.815 0.9,14.815 ; -0.9,-16.685 0.9,-16.685 0.9,16.685 -0.45,16.685 -0.9,16.235 -0.9,-16.685
  text "'.Designator'" at 0.84,-4.047 h1
Top Courtyard:
  lines w0.254: -2.75,-17.2 2.75,-17.2 2.75,17.2 -2.75,17.2 -2.75,-17.2
Top Designator:
  text ".Designator" at -7.618,-0.508 h1.52

## PinSocket_1x26_P1.27mm_Vertical_SMD_Pin1Right [mm]
pads (26):
  rect 1.8x0.65 smd: 1(1.35,15.875) 2(-1.35,14.605) 3(1.35,13.335) 4(-1.35,12.065) 5(1.35,10.795) 6(-1.35,9.525) 7(1.35,8.255) 8(-1.35,6.985) 9(1.35,5.715) 10(-1.35,4.445) 11(1.35,3.175) 12(-1.35,1.905) 13(1.35,0.635) 14(-1.35,-0.635) 15(1.35,-1.905) 16(-1.35,-3.175) 17(1.35,-4.445) 18(-1.35,-5.715) 19(1.35,-6.985) 20(-1.35,-8.255) 21(1.35,-9.525) 22(-1.35,-10.795) 23(1.35,-12.065) 24(-1.35,-13.335) 25(1.35,-14.605) 26(-1.35,-15.875)
F.SilkS:
  lines w0.254: -0.96,-16.46 -0.96,-16.745 0.96,-16.745 0.96,-15.19 ; -0.96,-15.29 -0.96,-13.92 ; -0.96,-12.75 -0.96,-11.38 ; -0.96,-10.21 -0.96,-8.84 ; -0.96,-7.67 -0.96,-6.3 ; -0.96,-5.13 -0.96,-3.76 ; -0.96,-2.59 -0.96,-1.22 ; -0.96,-0.05 -0.96,1.32 ; -0.96,2.49 -0.96,3.86 ; -0.96,5.03 -0.96,6.4 ; -0.96,7.57 -0.96,8.94 ; -0.96,10.11 -0.96,11.48 ; -0.96,12.65 -0.96,14.02 ; -0.96,15.19 -0.96,16.745 0.96,16.745 0.96,16.46 2.19,16.46 ; 0.96,-14.02 0.96,-12.65 ; 0.96,-11.48 0.96,-10.11 ; 0.96,-8.94 0.96,-7.57 ; 0.96,-6.4 0.96,-5.03 ; 0.96,-3.86 0.96,-2.49 ; 0.96,-1.32 0.96,0.05 ; 0.96,1.22 0.96,2.59 ; 0.96,3.76 0.96,5.13 ; 0.96,6.3 0.96,7.67 ; 0.96,8.84 0.96,10.21 ; 0.96,11.38 0.96,12.75 ; 0.96,13.92 0.96,15.29
Top Assembly:
  lines w0.254: -0.9,-16.085 -1.75,-16.085 -1.75,-15.665 -0.9,-15.665 ; -0.9,-13.545 -1.75,-13.545 -1.75,-13.125 -0.9,-13.125 ; -0.9,-11.005 -1.75,-11.005 -1.75,-10.585 -0.9,-10.585 ; -0.9,-8.465 -1.75,-8.465 -1.75,-8.045 -0.9,-8.045 ; -0.9,-5.925 -1.75,-5.925 -1.75,-5.505 -0.9,-5.505 ; -0.9,-3.385 -1.75,-3.385 -1.75,-2.965 -0.9,-2.965 ; -0.9,-0.845 -1.75,-0.845 -1.75,-0.425 -0.9,-0.425 ; -0.9,1.695 -1.75,1.695 -1.75,2.115 -0.9,2.115 ; -0.9,4.235 -1.75,4.235 -1.75,4.655 -0.9,4.655 ; -0.9,6.775 -1.75,6.775 -1.75,7.195 -0.9,7.195 ; -0.9,9.315 -1.75,9.315 -1.75,9.735 -0.9,9.735 ; -0.9,11.855 -1.75,11.855 -1.75,12.275 -0.9,12.275 ; -0.9,14.395 -1.75,14.395 -1.75,14.815 -0.9,14.815 ; 0.9,-14.815 1.75,-14.815 1.75,-14.395 0.9,-14.395 ; 0.9,-12.275 1.75,-12.275 1.75,-11.855 0.9,-11.855 ; 0.9,-9.735 1.75,-9.735 1.75,-9.315 0.9,-9.315 ; 0.9,-7.195 1.75,-7.195 1.75,-6.775 0.9,-6.775 ; 0.9,-4.655 1.75,-4.655 1.75,-4.235 0.9,-4.235 ; 0.9,-2.115 1.75,-2.115 1.75,-1.695 0.9,-1.695 ; 0.9,0.425 1.75,0.425 1.75,0.845 0.9,0.845 ; 0.9,2.965 1.75,2.965 1.75,3.385 0.9,3.385 ; 0.9,5.505 1.75,5.505 1.75,5.925 0.9,5.925 ; 0.9,8.045 1.75,8.045 1.75,8.465 0.9,8.465 ; 0.9,10.585 1.75,10.585 1.75,11.005 0.9,11.005 ; 0.9,13.125 1.75,13.125 1.75,13.545 0.9,13.545 ; 0.9,15.665 1.75,15.665 1.75,16.085 0.9,16.085 ; -0.9,-16.685 0.9,-16.685 0.9,16.235 0.45,16.685 -0.9,16.685 -0.9,-16.685
  text "'.Designator'" at 0.84,-4.047 h1
Top Courtyard:
  lines w0.254: -2.75,-17.2 2.75,-17.2 2.75,17.2 -2.75,17.2 -2.75,-17.2
Top Designator:
  text ".Designator" at -7.618,-0.508 h1.52

## PinSocket_1x27_P1.27mm_Vertical [mm]
pads (27):
  rect 1x1 hole 0.7: 1(0,0)
  round 1 hole 0.7: 2(0,-1.27) 3(0,-2.54) 4(0,-3.81) 5(0,-5.08) 6(0,-6.35) 7(0,-7.62) 8(0,-8.89) 9(0,-10.16) 10(0,-11.43) 11(0,-12.7) 12(0,-13.97) 13(0,-15.24) 14(0,-16.51) 15(0,-17.78) 16(0,-19.05) 17(0,-20.32) 18(0,-21.59) 19(0,-22.86) 20(0,-24.13) 21(0,-25.4) 22(0,-26.67) 23(0,-27.94) 24(0,-29.21) 25(0,-30.48) 26(0,-31.75) 27(0,-33.02)
F.SilkS:
  lines w0.254: -0.76,-0.635 -1.33,-0.635 -1.33,-33.715 -0.308,-33.715 ; 0,0.76 1.33,0.76 1.33,0 ; 0.308,-33.715 1.33,-33.715 1.33,-0.635 0.76,-0.635
Top Assembly:
  lines w0.254: -1.27,-33.655 1.27,-33.655 1.27,0 0.635,0.635 -1.27,0.635 -1.27,-33.655
  text "'.Designator'" at 0.84,-20.557 h1
Top Courtyard:
  lines w0.254: -1.8,-34.15 1.75,-34.15 1.75,1.15 -1.8,1.15 -1.8,-34.15
Top Designator:
  text ".Designator" at -7.643,-17.008 h1.52

## PinSocket_1x27_P1.27mm_Vertical_SMD_Pin1Left [mm]
pads (27):
  rect 1.8x0.65 smd: 1(-1.35,16.51) 2(1.35,15.24) 3(-1.35,13.97) 4(1.35,12.7) 5(-1.35,11.43) 6(1.35,10.16) 7(-1.35,8.89) 8(1.35,7.62) 9(-1.35,6.35) 10(1.35,5.08) 11(-1.35,3.81) 12(1.35,2.54) 13(-1.35,1.27) 14(1.35,0) 15(-1.35,-1.27) 16(1.35,-2.54) 17(-1.35,-3.81) 18(1.35,-5.08) 19(-1.35,-6.35) 20(1.35,-7.62) 21(-1.35,-8.89) 22(1.35,-10.16) 23(-1.35,-11.43) 24(1.35,-12.7) 25(-1.35,-13.97) 26(1.35,-15.24) 27(-1.35,-16.51)
F.SilkS:
  lines w0.254: -2.19,17.095 -0.96,17.095 -0.96,17.38 0.96,17.38 0.96,15.825 ; -0.96,-17.095 -0.96,-17.38 0.96,-17.38 0.96,-15.825 ; -0.96,-15.925 -0.96,-14.555 ; -0.96,-13.385 -0.96,-12.015 ; -0.96,-10.845 -0.96,-9.475 ; -0.96,-8.305 -0.96,-6.935 ; -0.96,-5.765 -0.96,-4.395 ; -0.96,-3.225 -0.96,-1.855 ; -0.96,-0.685 -0.96,0.685 ; -0.96,1.855 -0.96,3.225 ; -0.96,4.395 -0.96,5.765 ; -0.96,6.935 -0.96,8.305 ; -0.96,9.475 -0.96,10.845 ; -0.96,12.015 -0.96,13.385 ; -0.96,14.555 -0.96,15.925 ; 0.96,-14.655 0.96,-13.285 ; 0.96,-12.115 0.96,-10.745 ; 0.96,-9.575 0.96,-8.205 ; 0.96,-7.035 0.96,-5.665 ; 0.96,-4.495 0.96,-3.125 ; 0.96,-1.955 0.96,-0.585 ; 0.96,0.585 0.96,1.955 ; 0.96,3.125 0.96,4.495 ; 0.96,5.665 0.96,7.035 ; 0.96,8.205 0.96,9.575 ; 0.96,10.745 0.96,12.115 ; 0.96,13.285 0.96,14.655
Top Assembly:
  lines w0.254: -0.9,-16.72 -1.75,-16.72 -1.75,-16.3 -0.9,-16.3 ; -0.9,-14.18 -1.75,-14.18 -1.75,-13.76 -0.9,-13.76 ; -0.9,-11.64 -1.75,-11.64 -1.75,-11.22 -0.9,-11.22 ; -0.9,-9.1 -1.75,-9.1 -1.75,-8.68 -0.9,-8.68 ; -0.9,-6.56 -1.75,-6.56 -1.75,-6.14 -0.9,-6.14 ; -0.9,-4.02 -1.75,-4.02 -1.75,-3.6 -0.9,-3.6 ; -0.9,-1.48 -1.75,-1.48 -1.75,-1.06 -0.9,-1.06 ; -0.9,1.06 -1.75,1.06 -1.75,1.48 -0.9,1.48 ; -0.9,3.6 -1.75,3.6 -1.75,4.02 -0.9,4.02 ; -0.9,6.14 -1.75,6.14 -1.75,6.56 -0.9,6.56 ; -0.9,8.68 -1.75,8.68 -1.75,9.1 -0.9,9.1 ; -0.9,11.22 -1.75,11.22 -1.75,11.64 -0.9,11.64 ; -0.9,13.76 -1.75,13.76 -1.75,14.18 -0.9,14.18 ; -0.9,16.3 -1.75,16.3 -1.75,16.72 -0.9,16.72 ; 0.9,-15.45 1.75,-15.45 1.75,-15.03 0.9,-15.03 ; 0.9,-12.91 1.75,-12.91 1.75,-12.49 0.9,-12.49 ; 0.9,-10.37 1.75,-10.37 1.75,-9.95 0.9,-9.95 ; 0.9,-7.83 1.75,-7.83 1.75,-7.41 0.9,-7.41 ; 0.9,-5.29 1.75,-5.29 1.75,-4.87 0.9,-4.87 ; 0.9,-2.75 1.75,-2.75 1.75,-2.33 0.9,-2.33 ; 0.9,-0.21 1.75,-0.21 1.75,0.21 0.9,0.21 ; 0.9,2.33 1.75,2.33 1.75,2.75 0.9,2.75 ; 0.9,4.87 1.75,4.87 1.75,5.29 0.9,5.29 ; 0.9,7.41 1.75,7.41 1.75,7.83 0.9,7.83 ; 0.9,9.95 1.75,9.95 1.75,10.37 0.9,10.37 ; 0.9,12.49 1.75,12.49 1.75,12.91 0.9,12.91 ; 0.9,15.03 1.75,15.03 1.75,15.45 0.9,15.45 ; -0.9,-17.32 0.9,-17.32 0.9,17.32 -0.45,17.32 -0.9,16.87 -0.9,-17.32
  text "'.Designator'" at 0.84,-4.047 h1
Top Courtyard:
  lines w0.254: -2.75,-17.8 2.75,-17.8 2.75,17.85 -2.75,17.85 -2.75,-17.8
Top Designator:
  text ".Designator" at -7.618,-0.483 h1.52

## PinSocket_1x27_P1.27mm_Vertical_SMD_Pin1Right [mm]
pads (27):
  rect 1.8x0.65 smd: 1(1.35,16.51) 2(-1.35,15.24) 3(1.35,13.97) 4(-1.35,12.7) 5(1.35,11.43) 6(-1.35,10.16) 7(1.35,8.89) 8(-1.35,7.62) 9(1.35,6.35) 10(-1.35,5.08) 11(1.35,3.81) 12(-1.35,2.54) 13(1.35,1.27) 14(-1.35,0) 15(1.35,-1.27) 16(-1.35,-2.54) 17(1.35,-3.81) 18(-1.35,-5.08) 19(1.35,-6.35) 20(-1.35,-7.62) 21(1.35,-8.89) 22(-1.35,-10.16) 23(1.35,-11.43) 24(-1.35,-12.7) 25(1.35,-13.97) 26(-1.35,-15.24) 27(1.35,-16.51)
F.SilkS:
  lines w0.254: -0.96,-15.825 -0.96,-17.38 0.96,-17.38 0.96,-17.095 ; -0.96,-14.655 -0.96,-13.285 ; -0.96,-12.115 -0.96,-10.745 ; -0.96,-9.575 -0.96,-8.205 ; -0.96,-7.035 -0.96,-5.665 ; -0.96,-4.495 -0.96,-3.125 ; -0.96,-1.955 -0.96,-0.585 ; -0.96,0.585 -0.96,1.955 ; -0.96,3.125 -0.96,4.495 ; -0.96,5.665 -0.96,7.035 ; -0.96,8.205 -0.96,9.575 ; -0.96,10.745 -0.96,12.115 ; -0.96,13.285 -0.96,14.655 ; -0.96,15.825 -0.96,17.38 0.96,17.38 0.96,17.095 2.19,17.095 ; 0.96,-15.925 0.96,-14.555 ; 0.96,-13.385 0.96,-12.015 ; 0.96,-10.845 0.96,-9.475 ; 0.96,-8.305 0.96,-6.935 ; 0.96,-5.765 0.96,-4.395 ; 0.96,-3.225 0.96,-1.855 ; 0.96,-0.685 0.96,0.685 ; 0.96,1.855 0.96,3.225 ; 0.96,4.395 0.96,5.765 ; 0.96,6.935 0.96,8.305 ; 0.96,9.475 0.96,10.845 ; 0.96,12.015 0.96,13.385 ; 0.96,14.555 0.96,15.925
Top Assembly:
  lines w0.254: -0.9,-15.45 -1.75,-15.45 -1.75,-15.03 -0.9,-15.03 ; -0.9,-12.91 -1.75,-12.91 -1.75,-12.49 -0.9,-12.49 ; -0.9,-10.37 -1.75,-10.37 -1.75,-9.95 -0.9,-9.95 ; -0.9,-7.83 -1.75,-7.83 -1.75,-7.41 -0.9,-7.41 ; -0.9,-5.29 -1.75,-5.29 -1.75,-4.87 -0.9,-4.87 ; -0.9,-2.75 -1.75,-2.75 -1.75,-2.33 -0.9,-2.33 ; -0.9,-0.21 -1.75,-0.21 -1.75,0.21 -0.9,0.21 ; -0.9,2.33 -1.75,2.33 -1.75,2.75 -0.9,2.75 ; -0.9,4.87 -1.75,4.87 -1.75,5.29 -0.9,5.29 ; -0.9,7.41 -1.75,7.41 -1.75,7.83 -0.9,7.83 ; -0.9,9.95 -1.75,9.95 -1.75,10.37 -0.9,10.37 ; -0.9,12.49 -1.75,12.49 -1.75,12.91 -0.9,12.91 ; -0.9,15.03 -1.75,15.03 -1.75,15.45 -0.9,15.45 ; 0.9,-16.72 1.75,-16.72 1.75,-16.3 0.9,-16.3 ; 0.9,-14.18 1.75,-14.18 1.75,-13.76 0.9,-13.76 ; 0.9,-11.64 1.75,-11.64 1.75,-11.22 0.9,-11.22 ; 0.9,-9.1 1.75,-9.1 1.75,-8.68 0.9,-8.68 ; 0.9,-6.56 1.75,-6.56 1.75,-6.14 0.9,-6.14 ; 0.9,-4.02 1.75,-4.02 1.75,-3.6 0.9,-3.6 ; 0.9,-1.48 1.75,-1.48 1.75,-1.06 0.9,-1.06 ; 0.9,1.06 1.75,1.06 1.75,1.48 0.9,1.48 ; 0.9,3.6 1.75,3.6 1.75,4.02 0.9,4.02 ; 0.9,6.14 1.75,6.14 1.75,6.56 0.9,6.56 ; 0.9,8.68 1.75,8.68 1.75,9.1 0.9,9.1 ; 0.9,11.22 1.75,11.22 1.75,11.64 0.9,11.64 ; 0.9,13.76 1.75,13.76 1.75,14.18 0.9,14.18 ; 0.9,16.3 1.75,16.3 1.75,16.72 0.9,16.72 ; -0.9,-17.32 0.9,-17.32 0.9,16.87 0.45,17.32 -0.9,17.32 -0.9,-17.32
  text "'.Designator'" at 0.84,-4.047 h1
Top Courtyard:
  lines w0.254: -2.75,-17.8 2.75,-17.8 2.75,17.85 -2.75,17.85 -2.75,-17.8
Top Designator:
  text ".Designator" at -7.618,-0.483 h1.52

## PinSocket_1x28_P1.27mm_Vertical [mm]
pads (28):
  rect 1x1 hole 0.7: 1(0,0)
  round 1 hole 0.7: 2(0,-1.27) 3(0,-2.54) 4(0,-3.81) 5(0,-5.08) 6(0,-6.35) 7(0,-7.62) 8(0,-8.89) 9(0,-10.16) 10(0,-11.43) 11(0,-12.7) 12(0,-13.97) 13(0,-15.24) 14(0,-16.51) 15(0,-17.78) 16(0,-19.05) 17(0,-20.32) 18(0,-21.59) 19(0,-22.86) 20(0,-24.13) 21(0,-25.4) 22(0,-26.67) 23(0,-27.94) 24(0,-29.21) 25(0,-30.48) 26(0,-31.75) 27(0,-33.02) 28(0,-34.29)
F.SilkS:
  lines w0.254: -0.76,-0.635 -1.33,-0.635 -1.33,-34.985 -0.308,-34.985 ; 0,0.76 1.33,0.76 1.33,0 ; 0.308,-34.985 1.33,-34.985 1.33,-0.635 0.76,-0.635
Top Assembly:
  lines w0.254: -1.27,-34.925 1.27,-34.925 1.27,0 0.635,0.635 -1.27,0.635 -1.27,-34.925
  text "'.Designator'" at 0.84,-21.192 h1
Top Courtyard:
  lines w0.254: -1.8,-35.45 1.75,-35.45 1.75,1.15 -1.8,1.15 -1.8,-35.45
Top Designator:
  text ".Designator" at -7.643,-17.658 h1.52